# Altium footprint library PCB - POWER INDUCTORS - TAIYO YUDEN NR1005.PcbLib: 1 footprints
Each footprint in its own frame and in the unit in brackets; x right, y up, seen from the top. Pads: shape width x height; smd on the part's side, far side on the other; paste and mask are expansions set on the pad; w line width, h text height; cw(c..) or ccw(c..) is an arc to the next point about the centre after c.
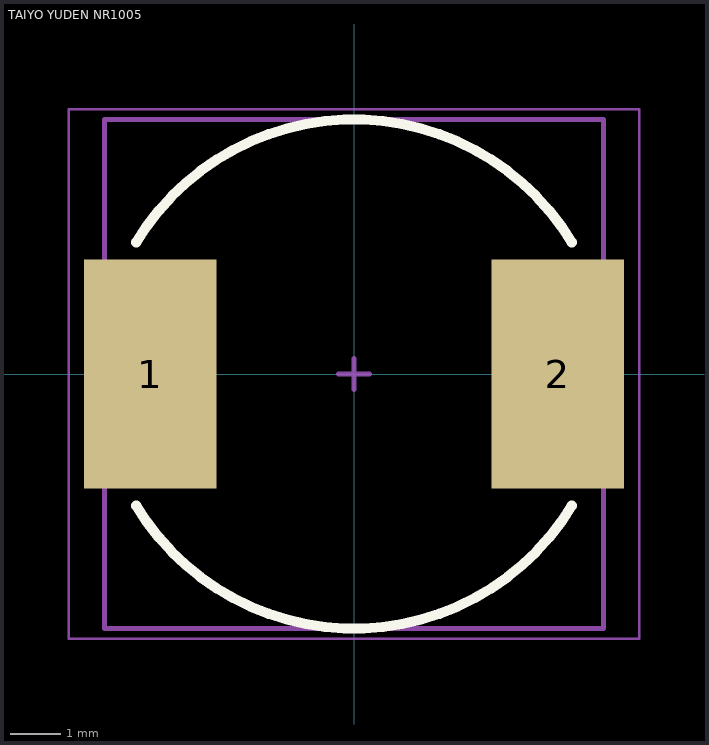
[diagram p0: the footprint, top view; thin cyan lines are the x and y axes]

## TAIYO YUDEN NR1005 [mm] "Power Inductor, 2-Leads,Taiyo Yuden, NR10050T100M"
height 5
pads (2):
  rect 2.6x4.5 smd: 1(-4,0) 2(4,0)
Top Overlay:
  lines w0.2: -4.279,-2.587 ccw(c0,0) 4.279,-2.587 ; -4.279,2.587 cw(c0,0) 4.279,2.587
Mechanical 13:
  lines w0.1: -4.9,-5 -4.9,5 4.9,5 4.9,-5 -4.9,-5
Mechanical 15 (Mech15):
  lines w0.05: -5.6,-5.2 5.6,-5.2 5.6,5.2 -5.6,5.2 -5.6,-5.2
  lines w0.1: -0.3,0 0.3,0 ; 0,-0.3 0,0.3
3D body "Taiyo Yuden - NR1005.step": height 5, standoff 0, extent -4.9,-5 4.9,5